# EAGLE library part TEENSY_3.5/3.6 (library Phils teensy)
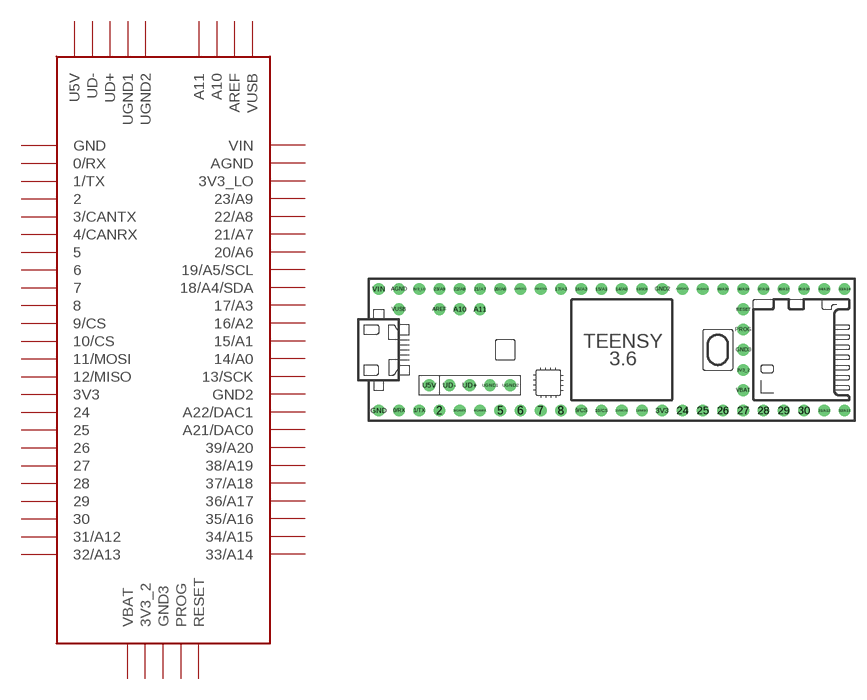
[diagram p2: symbol with the pads of TEENSY_3.5/3.6; footprint TEENSY_3.5/3.6]

Designator prefix -

## TEENSY_3.5/3.6  [TEENSY_3.5/3.6]
0/RX  0/RX
1/TX  1/TX
2  2
3/CANTX  3/CANTX
3V3  3V3
3V3_2  3V3_2
3V3_LO  3V3_LO
4/CANRX  4/CANRX
5  5
6  6
7  7
8  8
9/CS  9/CS
10/CS  10/CS
11/MOSI  11/MOSI
12/MISO  12/MISO
13/SCK  13/SCK
14/A0  14/A0
15/A1  15/A1
16/A2  16/A2
17/A3  17/A3
18/A4/SDA  18/A4/SDA
19/A5/SCL  19/A5/SCL
20/A6  20/A6
21/A7  21/A7
21/DAC0  A21/DAC0
22/A8  22/A8
23/A9  23/A9
24  24
25  25
26  26
27  27
28  28
29  29
30  30
31/A12  31/A12
32/A13  32/A13
33/A14  33/A14
34/A15  34/A15
35/A16  35/A16
36/A17  36/A17
37/A18  37/A18
38/A19  38/A19
39/A20  39/A20
A10  A10
A11  A11
A22/DAC1  A22/DAC1
AGND  AGND
AREF  AREF
GND  GND
GND2  GND2
GND3  GND3
PROG  PROG
RESET  RESET
U5V  U5V
UD+  UD+
UD-  UD-
UGND1  UGND1
UGND2  UGND2
VBAT  VBAT
VIN  VIN
VUSB  VUSB

## Footprint TEENSY_3.5/3.6 (pad centres in mm)
drill 0.965: 0/RX -25.4,-7.62; 1/TX -22.86,-7.62; 2 -20.32,-7.62; 3/CANTX -17.78,-7.62; 3V3 7.62,-7.62; 3V3_2 17.78,-2.54; 3V3_LO -22.86,7.62; 4/CANRX -15.24,-7.62; 5 -12.7,-7.62; 6 -10.16,-7.62; 7 -7.62,-7.62; 8 -5.08,-7.62; 9/CS -2.54,-7.62; 10/CS 0,-7.62; 11/MOSI 2.54,-7.62; 12/MISO 5.08,-7.62; 13/SCK 5.08,7.62; 14/A0 2.54,7.62; 15/A1 0,7.62; 16/A2 -2.54,7.62; 17/A3 -5.08,7.62; 18/A4/SDA -7.62,7.62; 19/A5/SCL -10.16,7.62; 20/A6 -12.7,7.62; 21/A7 -15.24,7.62; 21/DAC0 12.7,7.62; 22/A8 -17.78,7.62; 23/A9 -20.32,7.62; 24 10.16,-7.62; 25 12.7,-7.62; 26 15.24,-7.62; 27 17.78,-7.62; 28 20.32,-7.62; 29 22.86,-7.62; 30 25.4,-7.62; 31/A12 27.94,-7.62; 32/A13 30.48,-7.62; 33/A14 30.48,7.62; 34/A15 27.94,7.62; 35/A16 25.4,7.62; 36/A17 22.86,7.62; 37/A18 20.32,7.62; 38/A19 17.78,7.62; 39/A20 15.24,7.62; A10 -17.78,5.08; A11 -15.24,5.08; A22/DAC1 10.16,7.62; AGND -25.4,7.62; AREF -20.32,5.08; GND -27.94,-7.62; GND2 7.62,7.62; GND3 17.78,0; PROG 17.78,2.54; RESET 17.78,5.08; U5V -21.59,-4.445; UD+ -16.51,-4.445; UD- -19.05,-4.445; UGND1 -13.97,-4.445; UGND2 -11.43,-4.445; VBAT 17.78,-5.08; VIN -27.94,7.62; VUSB -25.4,5.08